# EAGLE library part LTC6957IDD-2TRPBF (library ltc6957-2)
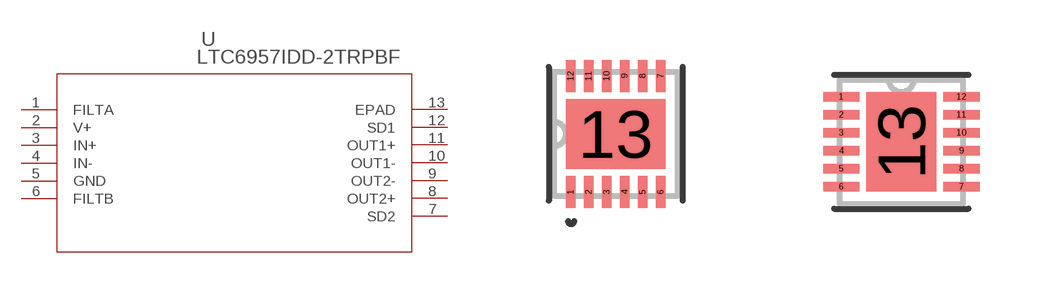
[diagram p1: symbol with the pads of DFN-12_DD_LIT; footprints DFN-12_DD_LIT, DFN-12_DD_LIT-M]

Designator prefix U

## LTC6957IDD-2TRPBF (COPYRIGHT: Copyright (C) 2023 Ultra Librarian. All rights reserved.; MANUFACTURER_PART_NUMBER: LTC6957IDD-2#TRPBF; MFR_NAME: Analog Devices Inc)  [DFN-12_DD_LIT]
1  FILTA  in
2  V+  pwr
3  IN+  in
4  IN-  in
5  GND  pwr
6  FILTB  in
7  SD2  out
8  OUT2+  out
9  OUT2-  out
10  OUT1-  out
11  OUT1+  pwr
12  SD1  out
13  EPAD  pas

## LTC6957IDD-2TRPBFDFN-12_DD_LIT-M (COPYRIGHT: Copyright (C) 2023 Ultra Librarian. All rights reserved.; MANUFACTURER_PART_NUMBER: LTC6957IDD-2#TRPBF; MFR_NAME: Analog Devices Inc)  [DFN-12_DD_LIT-M]
Pads as for DFN-12_DD_LIT

## LTC6957IDD-2TRPBFDFN-12_DD_LIT-L (COPYRIGHT: Copyright (C) 2023 Ultra Librarian. All rights reserved.; MANUFACTURER_PART_NUMBER: LTC6957IDD-2#TRPBF; MFR_NAME: Analog Devices Inc)  [DFN-12_DD_LIT-L]
Pads as for DFN-12_DD_LIT

## Footprint DFN-12_DD_LIT (pad centres in mm)
smd 0.229 x 0.805: 1 -1.125,-1.452; 2 -0.675,-1.452; 3 -0.225,-1.452; 4 0.225,-1.452; 5 0.675,-1.452; 6 1.125,-1.452; 7 1.125,1.452; 8 0.675,1.452; 9 0.225,1.452; 10 -0.225,1.452; 11 -0.675,1.452; 12 -1.125,1.452
smd 2.48 x 1.75: 13 0,0

## Footprint DFN-12_DD_LIT-M (pad centres in mm)
smd 0.906 x 0.229: 1 -1.503,1.125; 2 -1.503,0.675; 3 -1.503,0.225; 4 -1.503,-0.225; 5 -1.503,-0.675; 6 -1.503,-1.125; 7 1.503,-1.125; 8 1.503,-0.675; 9 1.503,-0.225; 10 1.503,0.225; 11 1.503,0.675; 12 1.503,1.125
smd 1.75 x 2.48: 13 0,0

## Footprint DFN-12_DD_LIT-L (pad centres in mm)
smd 0.703 x 0.229: 1 -1.402,1.125; 2 -1.402,0.675; 3 -1.402,0.225; 4 -1.402,-0.225; 5 -1.402,-0.675; 6 -1.402,-1.125; 7 1.402,-1.125; 8 1.402,-0.675; 9 1.402,-0.225; 10 1.402,0.225; 11 1.402,0.675; 12 1.402,1.125
smd 1.75 x 2.48: 13 0,0